# Altium schematic symbol library SCH - IO EXPANDER - NXP PCA9698BS HVQFN56.SchLib: 1 symbol
Pins are listed as number, name and electrical type; pins without a type are passive.

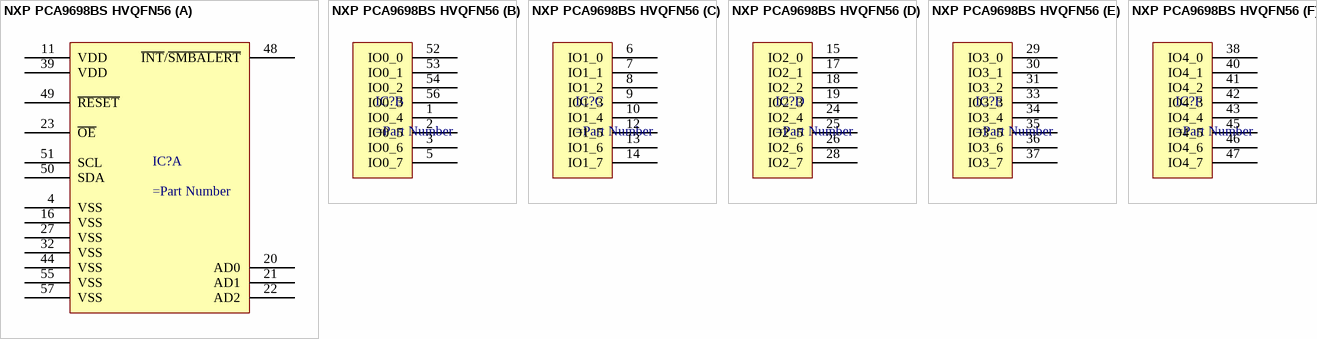
[diagram p0: symbol NXP PCA9698BS HVQFN56]

## NXP PCA9698BS HVQFN56
designator IC?
part A pins: 4 VSS, 11 VDD, 16 VSS, 20 AD0, 21 AD1, 22 AD2, 23 ~{OE}, 27 VSS, 32 VSS, 39 VDD, 44 VSS, 48 ~{INT}/~{SMBALERT}, 49 ~{RESET}, 50 SDA, 51 SCL, 55 VSS, 57 VSS
part B pins: 1 IO0_4, 2 IO0_5, 3 IO0_6, 5 IO0_7, 52 IO0_0, 53 IO0_1, 54 IO0_2, 56 IO0_3
part C pins: 6 IO1_0, 7 IO1_1, 8 IO1_2, 9 IO1_3, 10 IO1_4, 12 IO1_5, 13 IO1_6, 14 IO1_7
part D pins: 15 IO2_0, 17 IO2_1, 18 IO2_2, 19 IO2_3, 24 IO2_4, 25 IO2_5, 26 IO2_6, 28 IO2_7
part E pins: 29 IO3_0, 30 IO3_1, 31 IO3_2, 33 IO3_3, 34 IO3_4, 35 IO3_5, 36 IO3_6, 37 IO3_7
part F pins: 38 IO4_0, 40 IO4_1, 41 IO4_2, 42 IO4_3, 43 IO4_4, 45 IO4_5, 46 IO4_6, 47 IO4_7